# EAGLE library part TC4428 (library misc)
The TC4426/4427/4428 are high-speed power MOSFET drivers built using Microchip Technology's tough CMOS process.
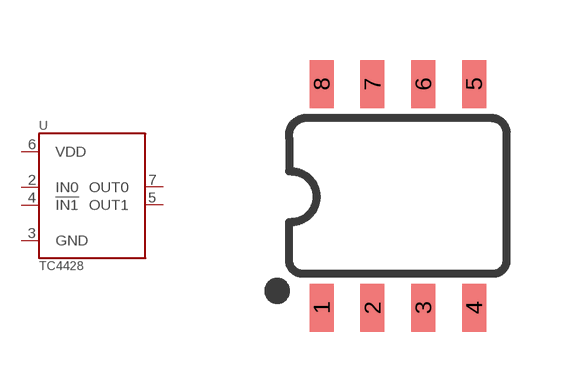
[diagram p5: symbol with the pads of SO08; footprint SO08]

Designator prefix -

## TC4428  [SO08]
2  IN0  in
3  GND  pas
4  !IN1!  in
5  OUT1  out
6  VDD  pwr
7  OUT0  out

## Footprint SO08 (pad centres in mm)
SOIC, 0.15 inch width
smd 0.6 x 1.2: 1 -1.905,-2.8; 2 -0.635,-2.8; 3 0.635,-2.8; 4 1.905,-2.8; 5 1.905,2.8; 6 0.635,2.8; 7 -0.635,2.8; 8 -1.905,2.8